# EAGLE library part DRV8844_BREAKOUT (library myFab)
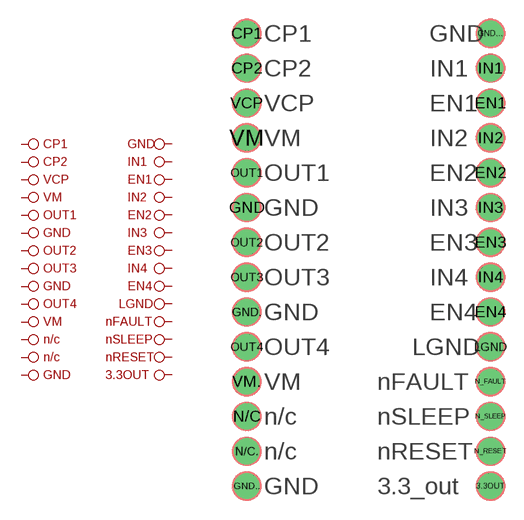
[diagram p25: symbol with the pads of DRV8844_BREAKOUT; footprint DRV8844_BREAKOUT]

Designator prefix -

## DRV8844_BREAKOUT  [DRV8844_BREAKOUT]
3.3OUT  1
CP1  15
CP2  16
EN1  12
EN2  10
EN3  8
EN4  6
GND  20
GND.  23
GND..  28
GND...  14
IN1  13
IN2  11
IN3  9
IN4  7
LGND  5
N/C  26
N/C.  27
N_FAULT  4
N_RESET  2
N_SLEEP  3
OUT1  19
OUT2  21
OUT3  22
OUT4  24
VCP  17
VM  18
VM.  25

## Footprint DRV8844_BREAKOUT (pad centres in mm)
drill 1.016 pad 1.88: 3.3OUT 8.89,-22.86; CP1 -8.89,10.16; CP2 -8.89,7.62; EN1 8.89,5.08; EN2 8.89,0; EN3 8.89,-5.08; EN4 8.89,-10.16; GND -8.89,-2.54; GND. -8.89,-10.16; GND.. -8.89,-22.86; GND... 8.89,10.16; IN1 8.89,7.62; IN2 8.89,2.54; IN3 8.89,-2.54; IN4 8.89,-7.62; LGND 8.89,-12.7; N/C -8.89,-17.78; N/C. -8.89,-20.32; N_FAULT 8.89,-15.24; N_RESET 8.89,-20.32; N_SLEEP 8.89,-17.78; OUT1 -8.89,0; OUT2 -8.89,-5.08; OUT3 -8.89,-7.62; OUT4 -8.89,-12.7; VCP -8.89,5.08; VM -8.89,2.54; VM. -8.89,-15.24